# EAGLE library part CREE_PLCC6 (library ERIC)
Cree PCLL6 3 in 1 SMD LED CLV6A-FKB
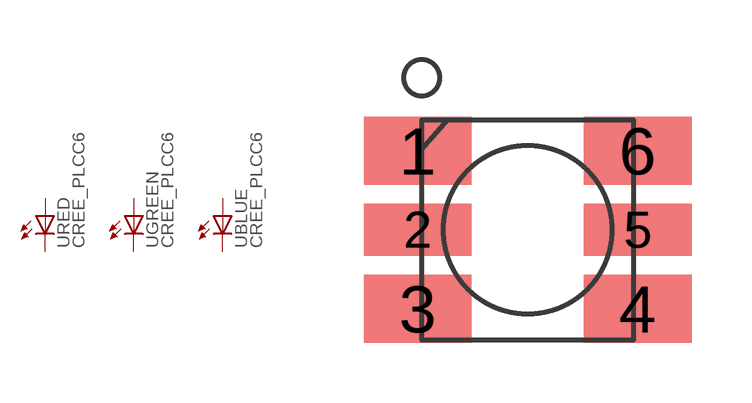
[diagram p11: symbol with the pads of PLCC6; footprint PLCC6]

Designator prefix -; gates RED=LED GREEN=LED BLUE=LED

## CREE_PLCC6  [PLCC6]
1  BLUE:C  pas
2  GREEN:C  pas
3  RED:C  pas
4  RED:A  pas
5  GREEN:A  pas
6  BLUE:A  pas

## Footprint PLCC6 (pad centres in mm)
Cree PLCC6 3 in 1 SMD LED CLV6A-FKB
smd 2.7 x 1.7: 1 -2.75,1.975; 3 -2.75,-1.975; 4 2.75,-1.975; 6 2.75,1.975
smd 2.7 x 1.3: 2 -2.75,0; 5 2.75,0